# Altium schematic symbol library J12MM.Schlib: 1 symbol
Pins are listed as number, name and electrical type; pins without a type are passive.

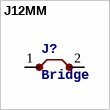
[diagram p0: symbol J12MM]

## J12MM
designator J?, comment Bridge
footprint 12
pins: 1, 2